# EAGLE library part ADM7150 (library regulator-jqi)
ADM7150 Ultra-low noise LDO. 1.7nV/rtHz. Fixed output between 1.5V and 5V.
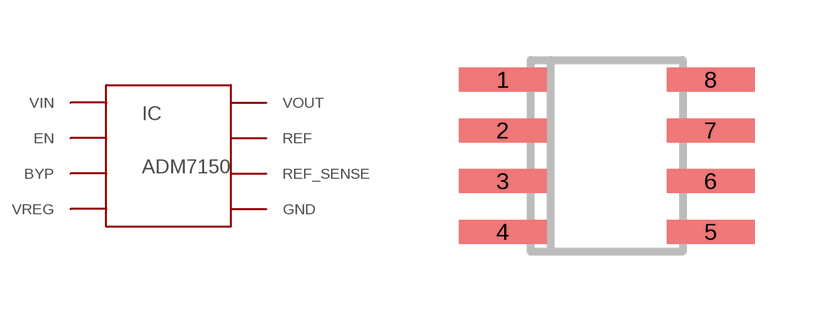
[diagram p0: symbol with the pads of SO08; footprint SO08]

Designator prefix IC

## ADM7150  [SO08]
1  VREG
2  VOUT
3  BYP
4  GND
5  REF_SENSE
6  REF
7  EN
8  VIN

## Footprint SO08 (pad centres in mm)
SOIC 08 - Compliant with JEDEC MS-012-AA.
smd 2.2 x 0.6: 1 -2.6,2.54; 2 -2.6,1.27; 3 -2.6,0; 4 -2.6,-1.27; 5 2.6,-1.27; 6 2.6,0; 7 2.6,1.27; 8 2.6,2.54